# EAGLE library part 691318500007 (library Eagle_WR-TBL Pluggable Connector (rev21a))
WR-TBL Serie 3185 - 5.08 mm Close Vertical PCB Header w. Flanges KIND PROPERTIES Pitch 5.08 mm MATERIAL PROPERTIES Insulator Material PBT Insulator Flammability Rating UL94 V-0 Contact Material Brass Contact Plating Tin GENERAL INFORMATION Operating Temperature -40 up to +105 °C Compliance RoHS ELECTRICAL PROPERTIES IR cULus 20 A IR VDE 20 A Working Voltage [cULus] 300 V (AC) Working Voltage [VDE] 300 V (AC) Withstanding Voltage [cULus] 1600 V (AC) Withstanding Voltage [VDE] 2500 V (AC) Contact Resistance [cULus] 20 mΩ Contact Resistance [VDE] 20 mΩ CERTIFICATION cULus Approval E315414 VDE Approval 40023195 <https://www.we-online.com/catalog/media/o33271v209%20Family_WR-TBL_69131850000x.jpg> Details see: https://www.we-online.com/catalog/en/TBL_5_08_3185_CLOSE_VERTICAL_PCB_HEADER_W_FLANGES_69131850000X/ Updated by Ella Wu 2019-12-25 2019(C) Wurth Elektronik
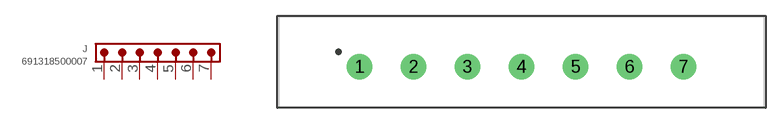
[diagram p280: symbol with the pads of 691318500007; footprint 691318500007]

Designator prefix J

## 691318500007 (DATASHEET-URL: https://www.we-online.com/catalog/datasheet/691318500007.pdf; IR-UL: 20A; IR-VDE: 20A; MOUNT: THT; PART-NUMBER: 691318500007; PINS: 7; PITCH: 5.08mm; TYPE: Vertical; VALUE: 691318500007; WORKING-VOLTAGE-UL: 300V (AC); WORKING-VOLTAGE-VDE: 300V (AC))  [691318500007]
1  1  pas
2  2  pas
3  3  pas
4  4  pas
5  5  pas
6  6  pas
7  7  pas

## Footprint 691318500007 (pad centres in mm)
WR-TBL Serie 3185 - 5.08 mm Close Vertical PCB Header w. Flanges Max Height = 12mm , Pitch 5.08mm , 7pins
drill 1.6: 1 -15.24,0; 2 -10.16,0; 3 -5.08,0; 4 0,0; 5 5.08,0; 6 10.16,0; 7 15.24,0